# Altium footprint library STM32_Smart.PcbLib: 23 footprints (part 1 of 2)
Each footprint in its own frame and in the unit in brackets; x right, y up, seen from the top. Pads: shape width x height; smd on the part's side, far side on the other; paste and mask are expansions set on the pad; w line width, h text height; cw(c..) or ccw(c..) is an arc to the next point about the centre after c.
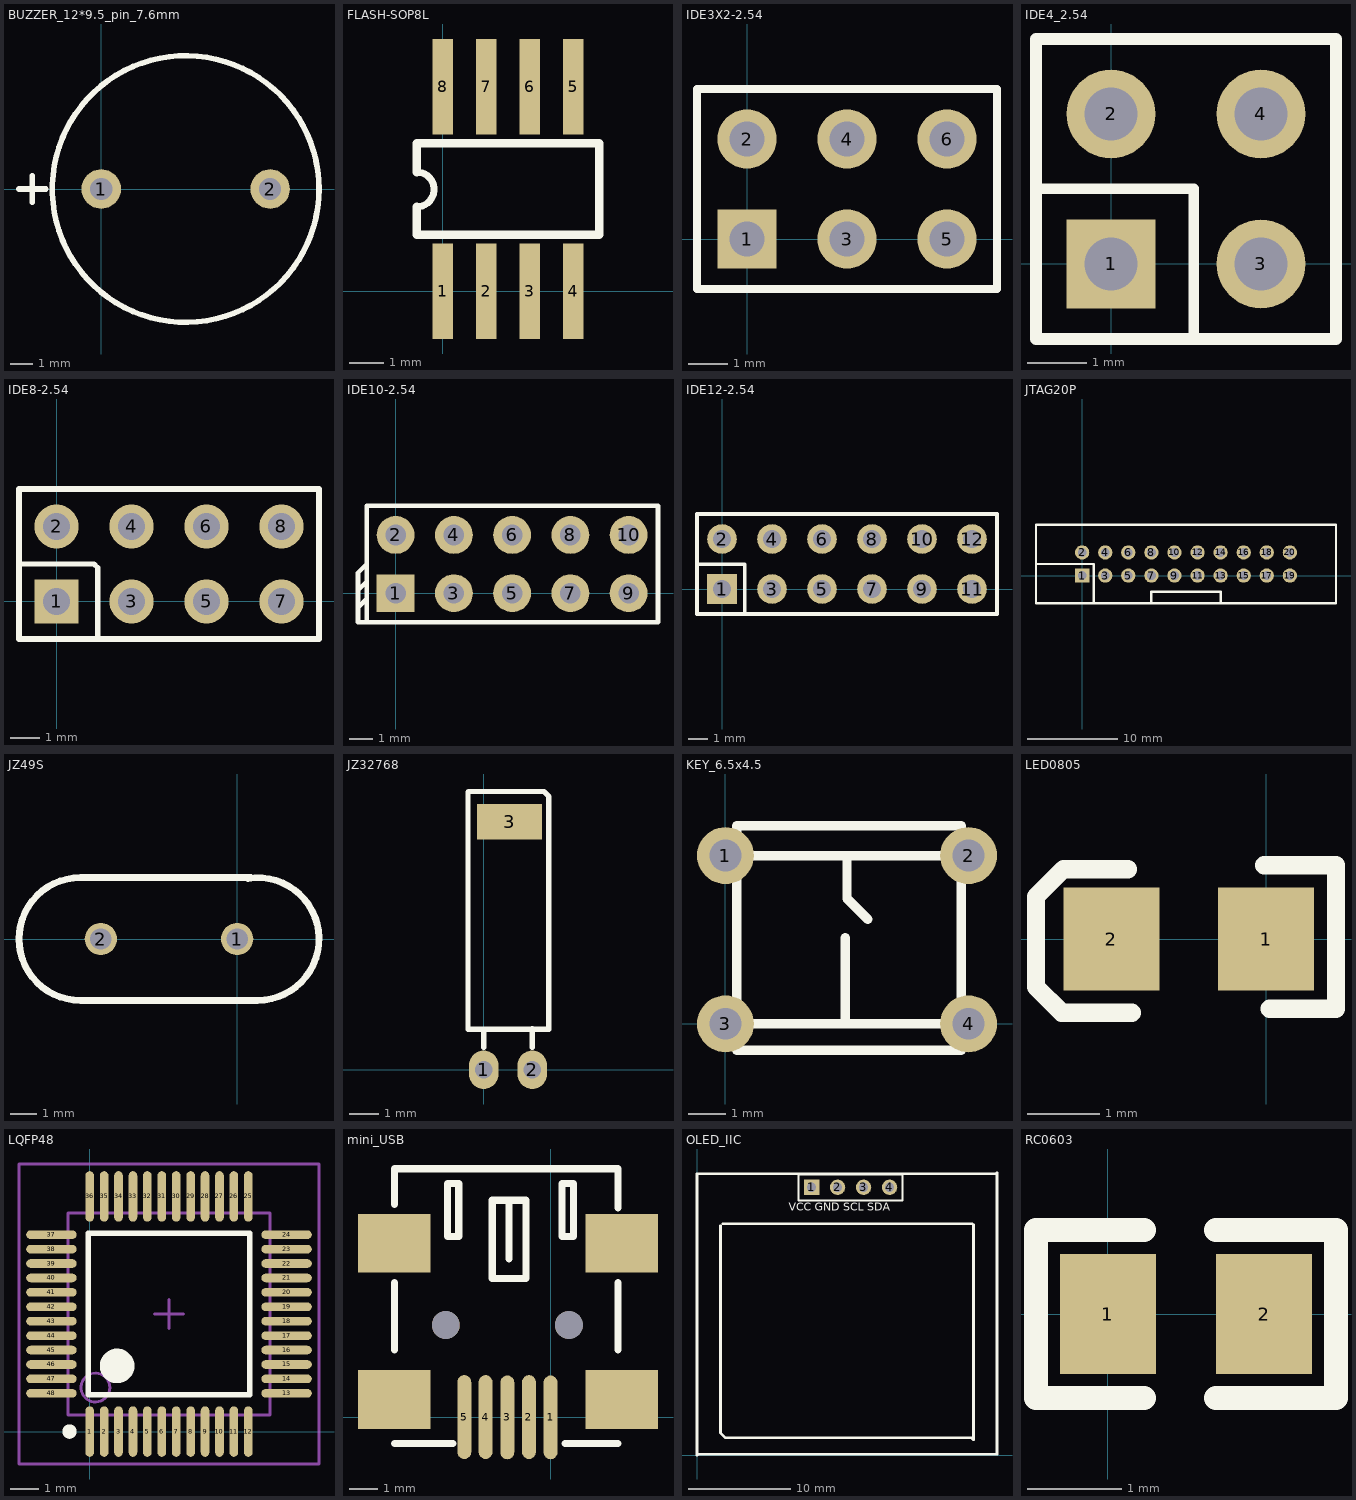
[diagram p0: the footprints below, top view; thin cyan lines are the x and y axes]

## BUZZER_12*9.5_pin_7.6mm [mil]
pads (2):
  round 70 hole 39.37: 1(0,0) 2(299.21,0)
Top Overlay:
  circle w10: c149.61,0 r236.22
  lines w10: -145.67,0 -98.43,0 ; -122.05,-23.62 -122.05,23.62
3D body "BUZZER-12x8.5-6.5.step": height 338.66, standoff -212.52, extent -82.68,-240.16 389.76,232.28

## FLASH-SOP8L [mil]
pads (8):
  rect 24x110 smd: 1(0,0) 2(50,0) 3(100,0) 4(150,0) 5(150,235) 6(100,235) 7(50,235) 8(0,235)
Top Overlay:
  lines w8: -30,97 ccw(c-30,117) -30,137
  lines w10: -30,97 -30,65 180,65 180,170 -30,170 -30,137

## IDE3X2-2.54 [mm]
pads (6):
  rect 1.5x1.5 hole 0.9: 1(0,0)
  round 1.5 hole 0.9: 2(0,2.54) 3(2.54,0) 4(2.54,2.54) 5(5.08,0) 6(5.08,2.54)
Top Overlay:
  lines w0.2: 1.482,-1.27 6.35,-1.27 ; 6.35,-1.27 6.35,3.81 -1.27,3.81 -1.27,-1.27 6.35,-1.27

## IDE4_2.54 [mm]
pads (4):
  rect 1.5x1.5 hole 0.9: 1(0,0)
  round 1.5 hole 0.9: 2(0,2.54) 3(2.54,0) 4(2.54,2.54)
Top Overlay:
  lines w0.178: -1.27,1.27 1.397,1.27 1.397,-1.27
  lines w0.2: -1.27,-1.27 -1.27,3.81 3.81,3.81 3.81,-1.27 -1.27,-1.27

## IDE8-2.54 [mm]
pads (8):
  rect 1.5x1.5 hole 0.9: 1(0,0)
  round 1.5 hole 0.9: 2(0,2.54) 3(2.54,0) 4(2.54,2.54) 5(5.08,0) 6(5.08,2.54) 7(7.62,0) 8(7.62,2.54)
Top Overlay:
  lines w0.178: -1.27,1.27 1.27,1.27 1.397,1.143 1.397,-1.27
  lines w0.2: -1.27,-1.27 8.89,-1.27 8.89,3.81 -1.27,3.81 -1.27,-1.27

## IDE10-2.54 [mil]
pads (10):
  rect 65x65 hole 35.43 mask+3: 1(0,0)
  round 65 hole 35.43 mask+3: 2(0,100) 3(100,0) 4(100,100) 5(200,0) 6(200,100) 7(300,0) 8(300,100) 9(400,0) 10(400,100)
Top Overlay:
  lines w8: -64.66,-24.83 -49.66,-9.83 ; -64.66,5.17 -49.66,20.17 ; -49.66,-49.83 -49.66,150.17 450.34,150.17 450.34,-49.83 -64.66,-49.83 -64.66,35.17 -49.66,50.17

## IDE12-2.54 [mm]
pads (12):
  rect 1.5x1.5 hole 0.9: 1(0,0)
  round 1.5 hole 0.9: 2(0,2.54) 3(2.54,0) 4(2.54,2.54) 5(5.08,0) 6(5.08,2.54) 7(7.62,0) 8(7.62,2.54) 9(10.16,0) 10(10.16,2.54) 11(12.7,0) 12(12.7,2.54)
Top Overlay:
  lines w0.178: -1.27,1.27 1.143,1.27 1.143,-1.27
  lines w0.2: -1.27,-1.27 13.97,-1.27 13.97,3.81 -1.27,3.81 -1.27,-1.27

## JTAG20P [mil]
pads (20):
  rect 62x62 hole 38: 1(0,0)
  round 62 hole 38: 2(0,100) 3(100,0) 4(100,100) 5(200,0) 6(200,100) 7(300,0) 8(300,100) 9(400,0) 10(400,100) 11(500,0) 12(500,100) 13(600,0) 14(600,100) 15(700,0) 16(700,100) 17(800,0) 18(800,100) 19(900,0) 20(900,100)
Top Overlay:
  lines w10: -200,50 50,50 50,-120 ; 300,-120 300,-70 600,-70 600,-120 ; -200,-120 -200,220 1100,220 1100,-120 -200,-120

## JZ49S [mm]
pads (2):
  round 1.2 hole 0.8: 1(0,0) 2(-5.08,0)
Top Overlay:
  lines w0.254: 0.404,2.258 cw(c0.762,0) 0.762,-2.286 -5.842,-2.286 cw(c-5.842,0) -5.842,2.286 0.508,2.286

## JZ32768 [mm]
pads (3):
  oval 1x1.3 hole 0.6: 1(0,0) 2(1.64,0)
  rect 2.2x1.2 smd: 3(0.875,8.382)
Top Overlay:
  lines w0.178: 0,0.762 0,1.37 ; 1.64,0.762 1.64,1.386 ; -0.53,1.37 2.2,1.37 2.2,8.77 2.2,9.23 2.032,9.398 -0.508,9.398 -0.53,9.376 -0.53,8.77 -0.53,1.37

## KEY_6.5x4.5 [mm]
pads (4):
  round 1.524 hole 0.85: 1(0,4.5) 2(6.5,4.5) 3(0,0) 4(6.5,0)
Top Overlay:
  lines w0.254: 0,0 6.5,0 ; 0,4.5 6.5,4.5 ; 3.2,0.05 3.2,0.7 3.2,2.3 ; 3.25,4.5 3.25,3.35 3.8,2.8 ; 0.3,-0.7 6.3,-0.7 6.3,5.3 0.3,5.3 0.3,-0.7

## LED0805 [mil]
pads (2):
  rect 52x56 smd: 1(0,0) 2(-84,0)
Top Overlay:
  lines w10: -75,38 -110,38 -125,23 -125,-26 -111,-40 -73,-40 ; -1,40 38,40 38,-38 2,-38

## LQFP48 [mm]
pads (48):
  oval 0.3x1.75 smd: 1(0,0) 2(0.5,0) 3(1,0) 4(1.5,0) 5(2,0) 6(2.5,0) 7(3,0) 8(3.5,0) 9(4,0) 10(4.5,0) 11(5,0) 12(5.5,0) 25(5.5,8.15) 26(5,8.15) 27(4.5,8.15) 28(4,8.15) 29(3.5,8.15) 30(3,8.15) 31(2.5,8.15) 32(2,8.15) 33(1.5,8.15) 34(1,8.15) 35(0.5,8.15) 36(0,8.15)
  oval 1.75x0.3 smd: 13(6.825,1.325) 14(6.825,1.825) 15(6.825,2.325) 16(6.825,2.825) 17(6.825,3.325) 18(6.825,3.825) 19(6.825,4.325) 20(6.825,4.825) 21(6.825,5.325) 22(6.825,5.825) 23(6.825,6.325) 24(6.825,6.825) 37(-1.325,6.825) 38(-1.325,6.325) 39(-1.325,5.825) 40(-1.325,5.325) 41(-1.325,4.825) 42(-1.325,4.325) 43(-1.325,3.825) 44(-1.325,3.325) 45(-1.325,2.825) 46(-1.325,2.325) 47(-1.325,1.825) 48(-1.325,1.325)
Top Overlay:
  circle w0.6: c0.95,2.275 r0.3
  circle w0.25: c-0.7,0 r0.125
  lines w0.2: -0.05,1.275 -0.05,6.875 5.55,6.875 5.55,1.275 -0.05,1.275
Mechanical 13:
  circle w0.1: c0.2,1.525 r0.5
  lines w0.1: -0.75,0.575 -0.75,7.575 6.25,7.575 6.25,0.575 -0.75,0.575
Mechanical 15:
  lines w0.1: 2.25,4.075 3.25,4.075 ; 2.75,3.575 2.75,4.575 ; -2.45,-1.125 -2.45,9.275 7.95,9.275 7.95,-1.125 -2.45,-1.125

## mini_USB [mm]
pads (11):
  oval 0.5x3 smd: 1(0,0) 2(-0.775,0.009) 3(-1.549,0) 4(-2.324,0.009) 5(-3.086,0.009)
  rect 2.6x2.1 smd: ""(-5.588,0.635) ""(-5.588,6.223) ""(2.54,0.635) ""(2.54,6.223)
  round 1 hole 1: ""(-3.749,3.299) ""(0.651,3.299)
Top Overlay:
  lines w0.254: -5.588,2.413 -5.588,4.826 ; -5.586,-0.938 -3.486,-0.938 ; -5.586,7.62 -5.586,8.89 2.414,8.89 2.414,7.493 ; -1.486,5.662 -1.486,7.762 ; 0.514,-0.938 2.414,-0.938 ; 2.413,2.413 2.413,4.826 ; -3.686,6.462 -3.286,6.462 -3.286,8.362 -3.686,8.362 -3.686,6.462 ; -2.086,4.962 -2.086,7.762 -0.886,7.762 -0.886,4.962 -2.086,4.962 ; 0.414,6.462 0.814,6.462 0.814,8.362 0.414,8.362 0.414,6.462

## OLED_IIC [mm]
pads (4):
  rect 1.5x1.5 hole 0.9: 1(11.19,26.173)
  round 1.5 hole 0.9: 2(13.73,26.173) 3(16.27,26.173) 4(18.81,26.173)
Top Overlay:
  lines w0.2: 9.92,24.903 9.92,27.443 20.08,27.443 20.08,24.903 9.92,24.903
  lines w0.254: 0,0 0,27.5 29.3,27.5 ; 0,0.1 29.3,0.1 29.3,27.6 ; 2.3,22.4 2.3,2.2 2.8,1.7 26.8,1.7 27,1.5 27,22.5 26.9,22.6 2.5,22.6
  text "VCC GND SCL SDA" at 8.955,23.887 h0.8

## RC0603 [mil]
pads (2):
  rect 40x50 smd: 1(0,0) 2(65,0)
Top Overlay:
  lines w10: 15,-35 -30,-35 -30,35 15,35 ; 45,-35 95,-35 95,35 45,35